# Altium schematic symbol library Flight_controller v1.0.SchLib: 128 symbols
Pins are listed as number, name and electrical type; pins without a type are passive.

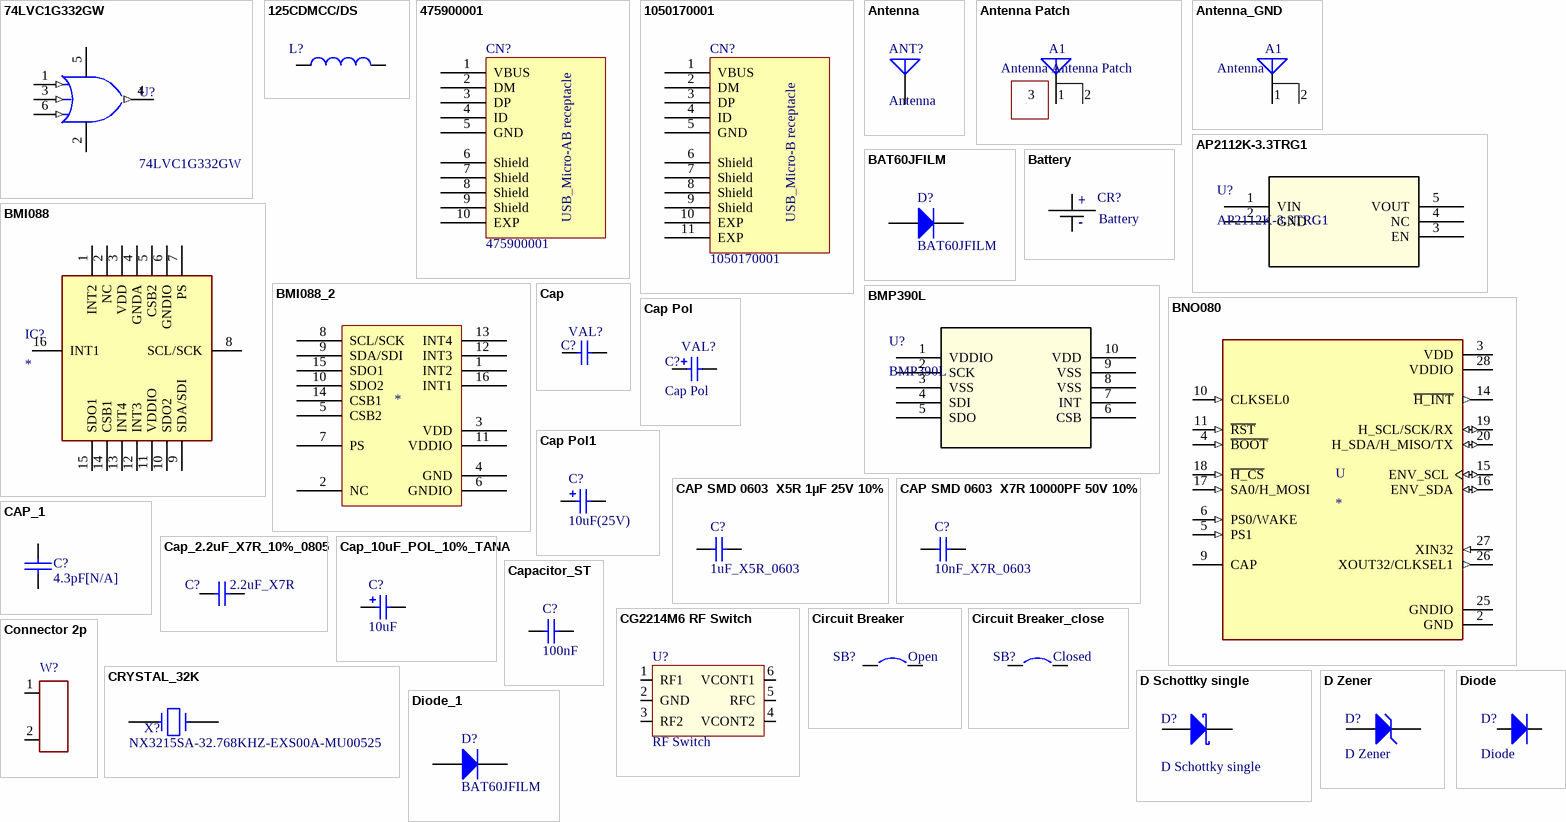
[diagram p0: symbols 74LVC1G332GW to Diode_1]

## 74LVC1G332GW
designator U?
Triple 3-Input OR Gate, 6-Pin; Published: 17-Jul-2002; Publisher: Altium Limited
footprint SOT363-6 (SOT363, 6-Leads, Body 2x1.3mm, Pitch 0.65mm, Lead Span 2.1mm, IPC Medium Density)
pins: 1 A (in), 2 GND (power), 3 B (in), 4 Y (out), 5 VCC (power), 6 C (in)

## 125CDMCC/DS
designator L?, comment 20A 2.2uH ±20% 3.5mΩ 29A SMD Power Inductors ROHS  (value not drawn)
footprint 125CDMCCDS-2R2MC (20A 2.2uH 3.5mOhm)
pins: 1, 2

## 475900001
designator CN?
footprint Model Name (Footprint not found)
footprint MOLEX_47590001 (Footprint not found)
pins: 1 VBUS, 2 DM, 3 DP, 4 ID, 5 GND, 6 Shield, 7 Shield, 8 Shield, 9 Shield, 10 EXP
text: USB_Micro-AB receptacle

## 1050170001
designator CN?
Silkscreen: USB
footprint Model Name (Footprint not found)
footprint MOLEX_1050170001 (Footprint not found)
footprint MICRO_USB_B_105017
footprint Molex_1050170001 (Footprint not found)
pins: 1 VBUS, 2 DM, 3 DP, 4 ID, 5 GND, 6 Shield, 7 Shield, 8 Shield, 9 Shield, 10 EXP, 11 EXP
text: USB_Micro-B receptacle

## Antenna
designator ANT?
Generic Antenna; LatestRevisionDate: 21-Feb-2012  -  Semtech
footprint pin_0.9mm (Generic Pin 0.9mm; 1 Lead)
footprint pin_1.1mm (Generic Pin 1.1mm; 1 Lead)
footprint ANT-LINX-HESM (Helix Antenna - Linx 434MHz)
footprint pin_1mm (Generic Pin 1.1mm; 1 Lead)
footprint ANT_2.4GHz_microstrip (Antenna 2.4 GHz ISM band - Microstrip)
pins: 1 A

## Antenna Patch
designator A1, comment Antenna Antenna Patch
Generic Antenna; Published: 24-Mar-1999; LatestRevisionDate: 05-oct-2007  -  Semtech; LatestRevisionNote: Re-released for DXP Platform.; Publisher: Altium Limited
footprint ANT Blipper (Antenna Blipper 868/915MHz)
pins: 1 A, 2 GND, 3 Patch

## Antenna_GND
designator A1, comment Antenna
Generic Antenna with GND; Published: 24-Mar-1999; LatestRevisionDate: 05-oct-2007  -  Semtech; LatestRevisionNote: Re-released for DXP Platform.; Publisher: Altium Limited
footprint ANT-315-SP (ANT-315-SP - Antenna Factor)
footprint ANT F-inverted (Antenna F-inverted 868/915MHz)
footprint ANT-PRINTED-SM (Custom Printed Antenna for SX12xx applications)
pins: 1 A, 2 GND

## AP2112K-3.3TRG1
designator U?
No Description Available; Mfr_Name: Diodes Inc; Copyright: Copyright (C) 2022 Ultra Librarian. All rights reserved.; Manufacturer_Part_Number: AP2112K-3.3TRG1; RefDes: RefDes; Type: DEV
footprint SOT_RG1_DIO
pins: 1 VIN, 2 GND, 3 EN, 4 NC, 5 VOUT

## BAT60JFILM
designator D?
Manuf_1: STM; Provided: ST; ECCN_US/EU: EAR99/NEC; Revision: July-2002: Re-released for DXP Platform.; Order: BAT60JFILM; Manuf_Part_1: BAT60JFILM; Distrib: ST
footprint DSO-C2/X3.3 (DO-214-AB/SMC; 2 C-Bend Leads; Body 7.9 x 5.9 mm, inc. leads (LxW))
simulation model DIODE (Diode)
signal-integrity model Diode
footprint SOD-323 (Footprint not found)
pins: 1 A, 2 K

## Battery
designator CR?
Baterry standard modif
footprint keystone_3002 (Keystone 3002 Battery Holder - CR2032 or other 20mm diam. battery)
footprint B2B-PH-K-S (B2B-PH-K-S; JST; Battery Connector; Header; 2 Position)
footprint S2B-PH-K-S (S2B-PH-K-S; JST; Battery Connector side entry; Header; 2 Position)
pins: 1 +, 2 -

## BMI088
designator IC?
Integrated Circuit; Manufacturer_Name: Bosch Sensortec; Manufacturer_Part_Number: BMI088; Datasheet Link: https://datasheet.datasheetarchive.com/originals/distributors/Datasheets_SAMA/994c3bf88e91a9e9fead6a819d348e4d.pdf; Height: 1.45mm; Mouser Part Number: 262-BMI088; Mouser Price/Stock: https://www.mouser.co.uk/ProductDetail/Bosch-Sensortec/BMI088?qs=f9yNj16SXrIMFspTV6RB6Q%3D%3D; Arrow Part Number: BMI088; Arrow Price/Stock: https://www.arrow.com/en/products/bmi088/bosch
footprint BMI088
pins: 1 INT2, 2 NC, 3 VDD, 4 GNDA, 5 CSB2, 6 GNDIO, 7 PS, 8 SCL/SCK, 9 SDA/SDI, 10 SDO2, 11 VDDIO, 12 INT3, 13 INT4, 14 CSB1, 15 SDO1, 16 INT1

## BMI088_2
designator *  (value not drawn)
footprint QFN_BMI085_BOS
pins: 1 INT2, 2 NC, 3 VDD, 4 GND, 5 CSB2, 6 GNDIO, 7 PS, 8 SCL/SCK, 9 SDA/SDI, 10 SDO2, 11 VDDIO, 12 INT3, 13 INT4, 14 CSB1, 15 SDO1, 16 INT1

## BMP390L
designator U?
No Description Available; Mfr_Name: Bosch Sensortec; Copyright: Copyright (C) 2022 Ultra Librarian. All rights reserved.; Manufacturer_Part_Number: BMP390L; RefDes: RefDes; Type: DEV
footprint BMP390L_BOS
pins: 1 VDDIO, 2 SCK, 3 VSS, 4 SDI, 5 SDO, 6 CSB, 7 INT, 8 VSS, 9 VSS, 10 VDD

## BNO080
designator U
Accelerometer, Gyroscope, Magnetometer, 9 Axis Sensor IÂ²C, SPI, UART Output; MF: Hillcrest Laboratories,; MP: BNO080; Package: TFLGA-28 Hillcrest Laboratories,; Digi-Key_Purchase_URL: https://www.digikey.com/product-detail/en/hillcrest-laboratories-inc/BNO080/1888-1000-1-ND/7917169?utm_source=snapeda&utm_medium=aggregator&utm_campaign=symbol; Value: *; SnapEDA_Link: https://www.snapeda.com/parts/BNO080/Hillcrest%20Laboratories%2C%20Inc./view-part/2769909/?ref=snap; Digi-Key_Part_Number: 1888-1000-1-ND
footprint BNO080
pins: 2 GND (power), 3 VDD (power), 4 ~{BOOT} (in), 5 PS1 (in), 6 PS0/WAKE (in), 9 CAP, 10 CLKSEL0 (in), 11 ~{RST} (in), 14 ~{H_INT} (out), 15 ENV_SCL (io), 16 ENV_SDA (io), 17 SA0/H_MOSI (in), 18 ~{H_CS} (in), 19 H_SCL/SCK/RX (io), 20 H_SDA/H_MISO/TX (io), 25 GNDIO (power), 26 XOUT32/CLKSEL1 (out), 27 XIN32 (in), 28 VDDIO (power)

## Cap
designator C?  value VAL?  (hidden comment: Cap)
Capacitor SMD; Published: 8-Jun-2000; LatestRevisionDate: 05-oct-2007  -  Semtech; LatestRevisionNote: Re-released for DXP Platform.; Publisher: Altium Limited
simulation model CAP (Semiconductor Capacitor)
signal-integrity model Cap Semi
footprint rlc_402_smd (Chip SMD component 402; Body 1.0 x 0.5 mm (LxW typ))
footprint rlc_603_smd (Chip SMD component 603; Body 1.6 x 0.8mm (LxW typ))
footprint rlc_805_smd (Chip SMD component 805; Body 2.0 x 1.25 mm (LxW typ))
footprint rlc_1206_smd (Chip SMD component 1206; Body 3.2 x 1.6 mm (LxW typ))
footprint rlc_201_smd (Chip SMD component 201; Body 0.6 x 0.3 mm (LxW typ))
pins: 1, 2

## Cap Pol
designator C?  value VAL?
Polarized Capacitor (Surface Mount); Published: 8-Jun-2000; LatestRevisionDate: 05-oct-2007  -  Semtech; LatestRevisionNote: Re-released for DXP Platform.; Publisher: Altium Limited
simulation model CAP (Capacitor)
signal-integrity model Cap Pol
footprint rlc_1210_smd (Chip SMD component 1210; Body 3.2 x 2.5 mm (LxW typ))
footprint rlc_1812_smd (Chip SMD component 1812; Body 4.5 x 3.2 mm (LxW typ))
footprint rlc_2225_smd (Chip SMD component 2225; Body 5.6 x 6.4 mm (LxW typ))
footprint CD3216-1206 (Chip Diode; Body 3.2 x 1.6 mm (LxW typ))
footprint CD2012-0805 (Chip Diode; Body 2.0 x 1.3 mm (LxW typ))
footprint rlc_1206_smd capa pol (Chip SMD component 1206; Body 3.2 x 1.6 mm (LxW typ))
pins: 1, 2
1 alternate drawing of the same symbol

## Cap Pol1
designator C?, comment 10uF(25V)
Polarized Capacitor (Radial); Published: 8-Jun-2000; Revision: July-2002: Re-released for DXP Platform.; Publisher: Altium Limited; Value: 10uF
simulation model CAP (Capacitor)
signal-integrity model C200M
footprint 3528 (Footprint not found)
footprint TAN-B
footprint TAN-A
pins: 1, 2

## CAP SMD 0603  X5R 1µF 25V 10%
designator C?, comment 1uF_X5R_0603
0603  X5R 1µF; Rated voltage: 25V; Tolerance: 10%; Manufacturer: *; Manufacturer P/N: *; Order code Farnell: 1288202RL; Value: 1µF; Power: *; Technology: X5R; Temperature  Factor: *; Temperature Max: +125°C; Temperature Min: -55°C; STS Code: *
footprint 0603C (Footprint not found)
3D model 0603_0_0000_R (PCB3D Model)
simulation model Capacitor
signal-integrity model Capacitor
pins: 1, 2

## CAP SMD 0603  X7R 10000PF 50V 10%
designator C?, comment 10nF_X7R_0603
0603  X7R 10NF; Order code RS: 2040779; Rated voltage: 50V; Tolerance: 10%; Order code Farnell: 7569548RL; Value: 10NF; Power: *; Technology: X7R; Temperature Factor: *; Temperature Min: -55°C; Temperature Max: +125°C; STS Code: *
footprint 0603C (Footprint not found)
3D model 0603_0_0000_R (PCB3D Model)
simulation model Capacitor
signal-integrity model Capacitor
pins: 1, 2

## CAP_1
designator C?, comment 4.3pF[N/A]
Capacitor
footprint 0603 (Footprint not found)
footprint 0603C
pins: 1, 2
2 alternate drawings of the same symbol

## Cap_2.2uF_X7R_10%_0805
designator C?, comment 2.2uF_X7R
Capacitor,2.2uF,16V, X7R,10%,0805,YAGEO; Manuf_Part_1: CC0805KKX7R7BB225; Revision: July-2002: Re-released for DXP Platform.; Value: 2.2uF; Order: CC0805KKX7R7BB225; Manuf_1: YAGEO
simulation model CAP (Capacitor)
signal-integrity model Cap
footprint 0805C
footprint TAN-A
pins: 1, 2

## Cap_10uF_POL_10%_TANA
designator C?, comment 10uF
Polarized Capacitor,10uF,10V,10%,typeA,VISHAY; Manuf_Part_1: 293D106X9010A2TE3; Revision: July-2002: Re-released for DXP Platform.; Value: 10uF; Manuf_1: VISHAY; Order: *; ECCN_US/EU: n/a
simulation model CAP (Capacitor)
signal-integrity model C200M
footprint TAN-A
pins: 1, 2

## Capacitor_ST
designator C?, comment 100nF
Capacitor 0402 / 0603 / 0805; Revision: July-2002: Re-released for DXP Platform.; Value: 100nF
simulation model CAP (Capacitor)
signal-integrity model Cap
footprint 0603C
footprint 0402C
footprint 0805C (Footprint not found)
pins: 1, 2

## CG2214M6 RF Switch
designator U?, comment RF Switch
CG2214M6 RF Switch; LatestRevisionDate: 10-Jan-2017 -  Semtech
footprint MiniMold-6 (MiniMold-6 Package 1.5x1.1mm)
pins: 1 RF1, 2 GND, 3 RF2, 4 VCONT2, 5 RFC, 6 VCONT1

## Circuit Breaker
designator SB?, comment Open
Circuit Breaker; Published: 24-Mar-1999; Revision: July-2002: Re-released for DXP Platform.; Publisher: Altium Limited
footprint SPST-2 (Circuit Breaker; 2 Leads)
footprint JP2_SMD
footprint SB_0603 (Footprint not found)
pins: 1, 2

## Circuit Breaker_close
designator SB?, comment Closed
Circuit Breaker; Published: 24-Mar-1999; Revision: July-2002: Re-released for DXP Platform.; Publisher: Altium Limited
footprint SPST-2 (Circuit Breaker; 2 Leads)
footprint JP2_SMD
footprint SB_0603 (Footprint not found)
pins: 1, 2

## Connector 2p
designator W?  (value not drawn)
2pins Connector
footprint Connector 2p 2_54mm (Generic connector 2.54mm, 2 Leads 1mm;)
pins: 1, 2

## CRYSTAL_32K
designator X?, comment NX3215SA-32.768KHZ-EXS00A-MU00525
Crystal
footprint XTAL1 (Footprint not found)
footprint XTAL_2SM_3R2X1R5 (Footprint not found)
footprint XTAL_NX3215SA-32.768KHZ-EXS00A-MU00525_NDK
pins: 1, 2
2 alternate drawings of the same symbol

## D Schottky single
designator D?
Schottky Diode
footprint SOD123 (SOD123; Chip Diode; Body  2.7 x 1.6 mm (LxW typ))
pins: 1 A, 2 K

## D Zener
designator D?
Zener Diode; Published: 8-Jun-2000; LatestRevisionDate: 05-oct-2007  -  Semtech; LatestRevisionNote: Re-released for DXP Platform.; Publisher: Altium Limited
footprint CD1608-0603 (Chip Diode; Body 1.6 x 0.8 mm (LxW typ))
footprint CD2012-0805 (Chip Diode; Body 2.0 x 1.3 mm (LxW typ))
pins: 1 A, 2 K

## Diode
designator D?
Protection Diode; Published: 8-Jun-2000; LatestRevisionDate: 17-Jul-2002; LatestRevisionNote: Re-released for DXP Platform.; PackageDocument: Sep-1996; PackageReference: SMC; Publisher: Altium Limited; Code_JEDEC: 05-oct-2007  -  Semtech
footprint CD1005-0402 (Chip Diode; Body 1.0 x 0.5 mm (LxW typ))
footprint CD1608-0603 (Chip Diode; Body 1.6 x 0.8 mm (LxW typ))
footprint CD2012-0805 (Chip Diode; Body 2.0 x 1.3 mm (LxW typ))
footprint CD3216-1206 (Chip Diode; Body 3.2 x 1.6 mm (LxW typ))
footprint PowerDI 123 (Chip Diode; PowerDI 123)
footprint DO214-AA (Chip Diode; Body 4.3 x3.6mm (LxW typ))
pins: 1 A, 2 K

## Diode_1
designator D?, comment BAT60JFILM
Default Diode; Code - JEDEC: DO-214-AB; Ordered by: STM; ECCN_US/EU: EAR99/NEC; Published: 8-Jun-2000; Revision: July-2002: Re-released for DXP Platform.; Publisher: Altium Limited
footprint DSO-C2/X3.3 (DO-214-AB/SMC; 2 C-Bend Leads; Body 7.9 x 5.9 mm, inc. leads (LxW))
simulation model DIODE (Diode)
signal-integrity model Diode
footprint SOD-323
pins: 1 A, 2 K

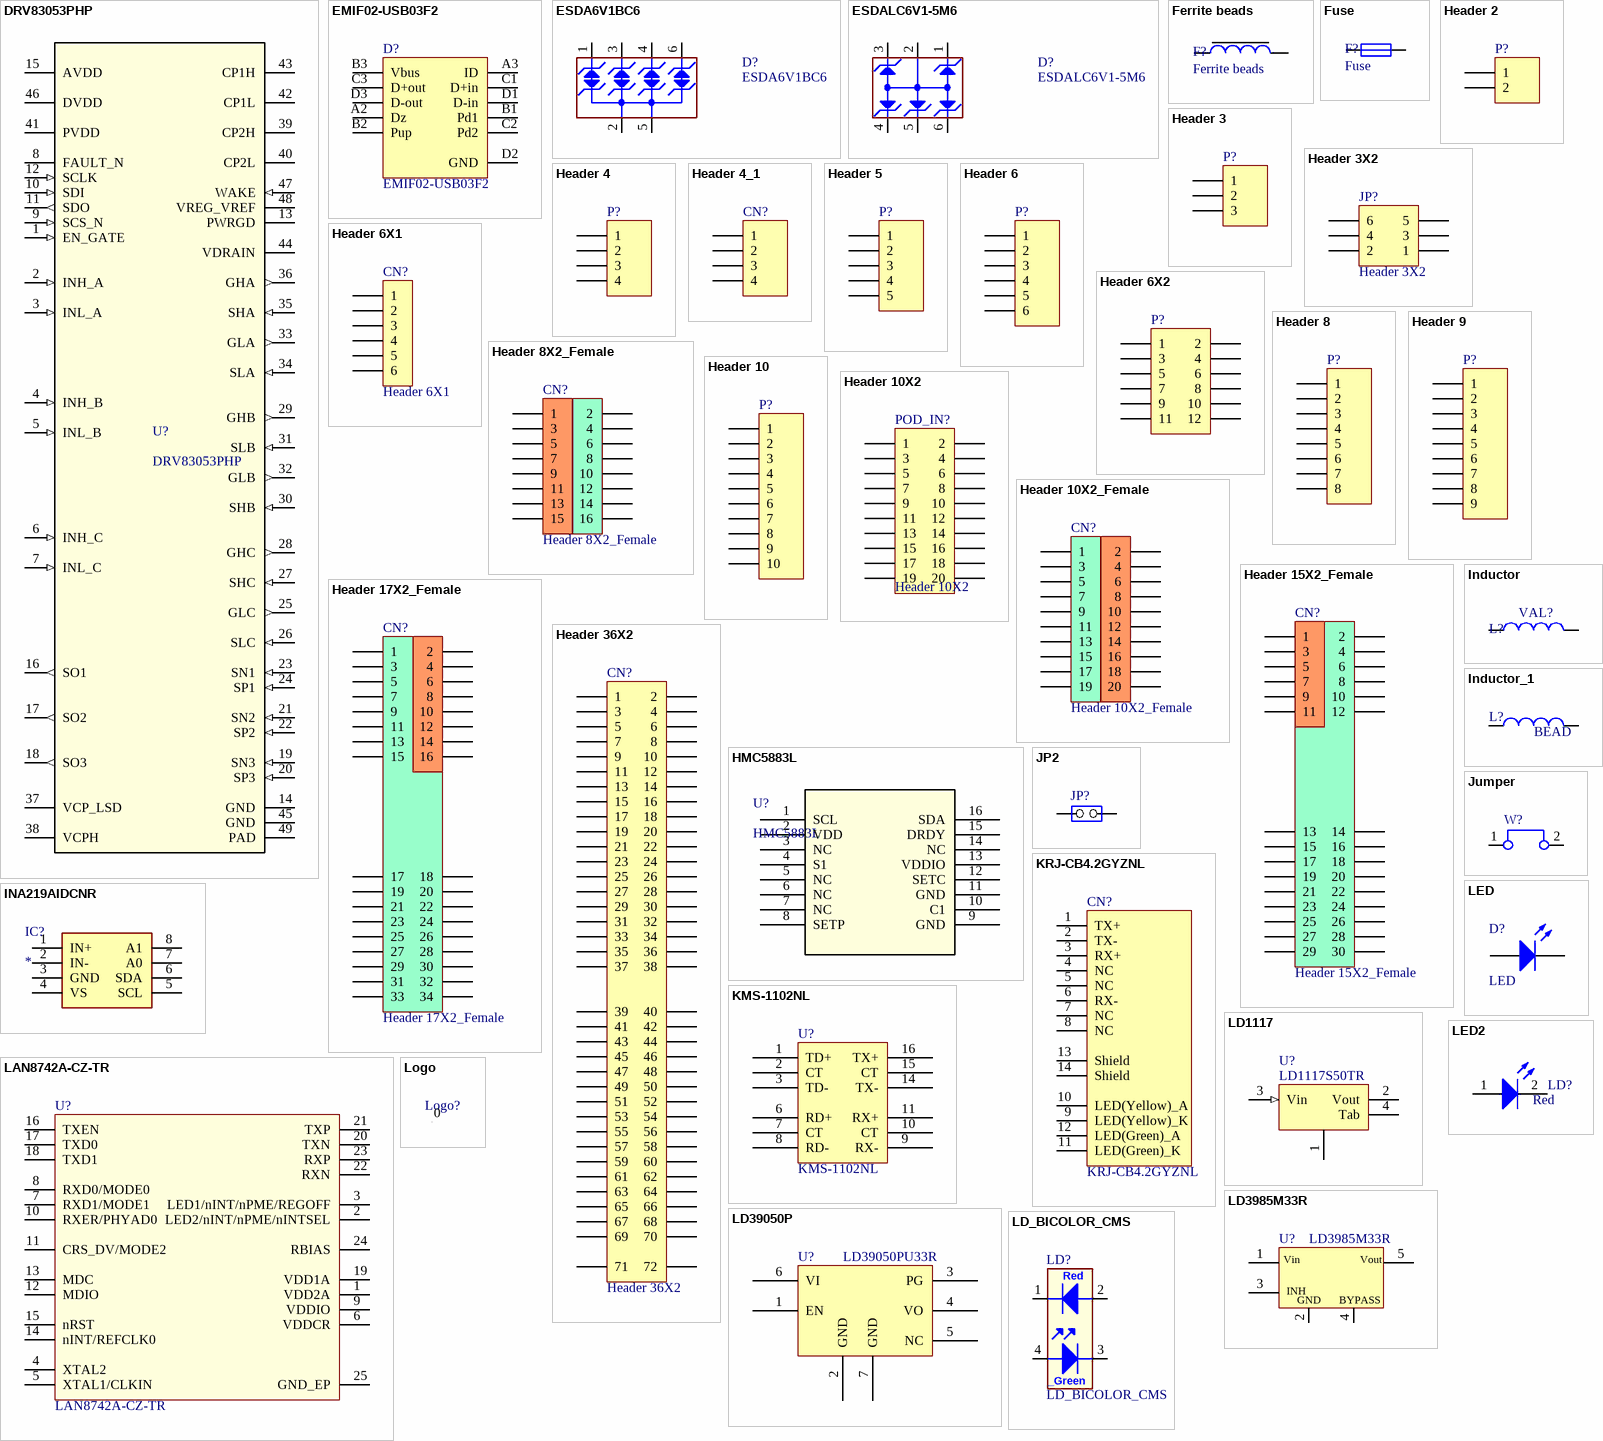
[diagram p1: symbols DRV83053PHP to Logo]

## DRV83053PHP
designator U?
No Description Available; Mfr_Name: Texas Instruments; PartNumber: DRV83053PHPR; CompType: IC; Type: DEV; RefDes: RefDes; Copyright: Copyright (C) 2022 Ultra Librarian. All rights reserved.; Manufacturer_Part_Number: DRV83053PHP; Application_BuildNumber: *; Alternate_PartNumber: DRV83053PHP; PackageReference: PHP0048G; MountType: SMT; RoHS: Y; Manufacturer: Texas Instruments
footprint PHP0048G_N
pins: 1 EN_GATE (in), 2 INH_A (in), 3 INL_A (in), 4 INH_B (in), 5 INL_B (in), 6 INH_C (in), 7 INL_C (in), 8 FAULT_N (oc), 9 SCS_N (in), 10 SDI (in), 11 SDO (out), 12 SCLK (in), 13 PWRGD (oc), 14 GND (power), 15 AVDD (power), 16 SO1 (out), 17 SO2 (out), 18 SO3 (out), 19 SN3 (in), 20 SP3 (in), 21 SN2 (in), 22 SP2 (in), 23 SN1 (in), 24 SP1 (in), 25 GLC (out), 26 SLC (in), 27 SHC (in), 28 GHC (out), 29 GHB (out), 30 SHB (in), 31 SLB (in), 32 GLB (out), 33 GLA (out), 34 SLA (in), 35 SHA (in), 36 GHA (out), 37 VCP_LSD, 38 VCPH, 39 CP2H, 40 CP2L, 41 PVDD (power), 42 CP1L, 43 CP1H, 44 VDRAIN (power), 45 GND (power), 46 DVDD (power), 47 WAKE (in), 48 VREG_VREF (power), 49 PAD (power)

## EMIF02-USB03F2
designator D?
footprint Flip Chip (Footprint not found)
footprint FlipChip(11)
footprint BGA11_0R5_1R57X2R07 (Footprint not found)
pins: A2 Dz, A3 ID, B1 Pd1, B2 Pup, B3 Vbus, C1 D+in, C2 Pd2, C3 D+out, D1 D-in, D2 GND, D3 D-out

## ESDA6V1BC6
designator D?
4-line ESD protection; Manuf_1: STM; Manuf_Part_1: ESDA5V3L; Ref St: 9179034; Provided: ST; ECCN_US/EU: EAR99/NEC; Distrib: ST; Order: ESDA5V3L; Ordered by: STM
footprint SOT23-6L (Footprint not found)
footprint uQFN (Footprint not found)
footprint SOT23-6L_STM
pins: 1 IO1, 2 IO2, 3 GND, 4 IO3, 5 IO4, 6 NC

## ESDALC6V1-5M6
designator D?
5-line ESD protection; Manuf_1: STM; Manuf_Part_1: ESDA5V3L; Ref St: 9179034; Provided: ST; ECCN_US/EU: EAR99/NEC; Distrib: ST; Order: ESDA5V3L; Ordered by: STM
footprint SOT323-5L
footprint uQFN (Footprint not found)
pins: 1 IO1, 2 IO2, 3 GND, 4 IO3, 5 IO4, 6 NC

## Ferrite beads
designator F?
Value: VAL?
footprint rlc_1206_smd (Chip SMD component 1206; Body 3.2 x 1.6 mm (LxW typ))
footprint rlc_805_smd (Chip SMD component 805; Body 2.0 x 1.25 mm (LxW typ))
footprint rlc_603_smd (Chip SMD component 603; Body 1.6 x 0.8mm (LxW typ))
footprint rlc_402_smd (Chip SMD component 402; Body 1.0 x 0.5 mm (LxW typ))
pins: 1, 2

## Fuse
designator F?
Published: 8-Jun-2000; LatestRevisionDate: 05-oct-2007  -  Semtech; LatestRevisionNote: Re-released for DXP Platform.; Publisher: Altium Limited
simulation model FUSE (Spice Subcircuit)
footprint rlc_1206_smd (Chip SMD component 1206; Body 3.2 x 1.6 mm (LxW typ))
footprint rlc_805_smd (Chip SMD component 805; Body 2.0 x 1.25 mm (LxW typ))
footprint rlc_603_smd (Chip SMD component 603; Body 1.6 x 0.8mm (LxW typ))
footprint rlc_402_smd (Chip SMD component 402; Body 1.0 x 0.5 mm (LxW typ))
pins: 1, 2

## Header 2
designator P?
Header, 2-Pin; LatestRevisionDate: 17-Jul-2002; LatestRevisionNote: Re-released for DXP Platform.; Publisher: Altium Limited
footprint HDR1X2 (Connector; Header; 2 Position)
signal-integrity model Connector
pins: 1, 2

## Header 3
designator P?
Header, 3-Pin; LatestRevisionDate: 17-Jul-2002; LatestRevisionNote: Re-released for DXP Platform.; Publisher: Altium Limited
footprint HDR1X3 (Connector; Header; 3 Position)
signal-integrity model Connector
pins: 1, 2, 3

## Header 3X2
designator JP?
Header, 3-Pin, Dual row; Revision: 17-Jul-2002: Re-released for DXP Platform.; Publisher: Altium Limited
footprint HDR2X3 (Connector; Header; 3x2 Position)
signal-integrity model Connector
footprint 2*3P
footprint HDR_3x2_2R54_V_M (Footprint not found)
pins: 1, 2, 3, 4, 5, 6

## Header 4
designator P?
Header, 4-Pin; LatestRevisionDate: 17-Jul-2002; LatestRevisionNote: Re-released for DXP Platform.; Publisher: Altium Limited
footprint HDR1X4 (Connector; Header; 4 Position)
signal-integrity model Connector
pins: 1, 2, 3, 4

## Header 4_1
designator CN?, comment Header 4  (value not drawn)
Header, 4-Pin, Single row; Revision: 17-Jul-2002: Re-released for DXP Platform.; Publisher: Altium Limited
signal-integrity model Connector
footprint 1*4 (Footprint not found)
footprint HDR_1x4_2R54_V_M (Footprint not found)
pins: 1, 2, 3, 4

## Header 5
designator P?
Header, 5-Pin; LatestRevisionDate: 17-Jul-2002; LatestRevisionNote: Re-released for DXP Platform.; Publisher: Altium Limited
footprint HDR1X5 (Connector; Header; 5 Position)
signal-integrity model Connector
pins: 1, 2, 3, 4, 5

## Header 6
designator P?
Header, 6-Pin; LatestRevisionDate: 17-Jul-2002; LatestRevisionNote: Re-released for DXP Platform.; Publisher: Altium Limited
footprint HDR1X6 (Connector; Header; 6 Position)
signal-integrity model Connector
pins: 1, 2, 3, 4, 5, 6

## Header 6X1
designator CN?
Header, 6-Pin, Single row; LatestRevisionDate: 17-Jul-2002; LatestRevisionNote: Re-released for DXP Platform.; Publisher: Altium Limited
footprint HDR2X17 (Connector; Header; 17x2 Position)
signal-integrity model Connector
footprint 1*6P (Footprint not found)
footprint HDR_1x6_2R54_V_M (Footprint not found)
pins: 1, 2, 3, 4, 5, 6

## Header 6X2
designator P?
Header, 6-Pin, Dual row; LatestRevisionDate: 17-Jul-2002; LatestRevisionNote: Re-released for DXP Platform.; Publisher: Altium Limited
footprint HDR2X6 (Connector; Header; 6x2 Position)
signal-integrity model Connector
pins: 1, 2, 3, 4, 5, 6, 7, 8, 9, 10, 11, 12

## Header 8
designator P?
Header, 8-Pin; LatestRevisionDate: 17-Jul-2002; LatestRevisionNote: Re-released for DXP Platform.; Publisher: Altium Limited
footprint HDR1X8 (Connector; Header; 8 Position)
signal-integrity model Connector
pins: 1, 2, 3, 4, 5, 6, 7, 8

## Header 8X2_Female
designator CN?
Header, 8-Pin, Dual row,female; LatestRevisionDate: 17-Jul-2002; LatestRevisionNote: Re-released for DXP Platform.; Publisher: Altium Limited
footprint HDR2X17 (Connector; Header; 17x2 Position)
signal-integrity model Connector
footprint 2*8P_FEMALE (Footprint not found)
footprint HDR_8x2_2R54_V_F (Footprint not found)
pins: 1, 2, 3, 4, 5, 6, 7, 8, 9, 10, 11, 12, 13, 14, 15, 16

## Header 9
designator P?
Header, 9-Pin; LatestRevisionDate: 17-Jul-2002; LatestRevisionNote: Re-released for DXP Platform.; Publisher: Altium Limited
footprint HDR1X9 (Connector; Header; 9 Position)
signal-integrity model Connector
pins: 1, 2, 3, 4, 5, 6, 7, 8, 9

## Header 10
designator P?
Header, 10-Pin; LatestRevisionDate: 17-Jul-2002; LatestRevisionNote: Re-released for DXP Platform.; Publisher: Altium Limited
footprint HDR1X10 (Connector; Header; 10 Position)
signal-integrity model Connector
footprint HDR1X10_TFT_Display (Connector; Header; 10 Position; Adafruit TFT Display)
pins: 1, 2, 3, 4, 5, 6, 7, 8, 9, 10

## Header 10X2
designator POD_IN?
Header, 10-Pin, Dual row; LatestRevisionDate: 17-Jul-2002; LatestRevisionNote: Re-released for DXP Platform.; Publisher: Altium Limited
footprint HDR2X10 (Connector; Header; 10x2 Position)
footprint HDR2X10 modif (Connector; Header; 10x2 Position - modified)
footprint SSW-110-01-F-D (Connector SMD; Header; 10x2 Position; Samtec)
pins: 1, 2, 3, 4, 5, 6, 7, 8, 9, 10, 11, 12, 13, 14, 15, 16, 17, 18, 19, 20

## Header 10X2_Female
designator CN?
Header, 10-Pin, Dual row,female; LatestRevisionDate: 17-Jul-2002; LatestRevisionNote: Re-released for DXP Platform.; Publisher: Altium Limited
footprint HDR2X17 (Connector; Header; 17x2 Position)
signal-integrity model Connector
footprint 2*10P_FEMALE (Footprint not found)
footprint HDR_10x2_2R54_V_F (Footprint not found)
pins: 1, 2, 3, 4, 5, 6, 7, 8, 9, 10, 11, 12, 13, 14, 15, 16, 17, 18, 19, 20

## Header 15X2_Female
designator CN?
Header, 15-Pin, Dual row,female; Revision: 17-Jul-2002: Re-released for DXP Platform.; Publisher: Altium Limited
footprint 2*15P_FEMALE (Footprint not found)
signal-integrity model Connector
footprint HDR_2X26_2R54 (Footprint not found)
footprint HDR_15x2_2R54_V_F (Footprint not found)
pins: 1, 2, 3, 4, 5, 6, 7, 8, 9, 10, 11, 12, 13, 14, 15, 16, 17, 18, 19, 20, 21, 22, 23, 24, 25, 26, 27, 28, 29, 30

## Header 17X2_Female
designator CN?
Header, 17-Pin, Dual row,female; Revision: 17-Jul-2002: Re-released for DXP Platform.; Publisher: Altium Limited
footprint 2*17P_FEMALE (Footprint not found)
signal-integrity model Connector
footprint HDR_2X26_2R54 (Footprint not found)
footprint HDR_17x2_2R54_V_F (Footprint not found)
pins: 1, 2, 3, 4, 5, 6, 7, 8, 9, 10, 11, 12, 13, 14, 15, 16, 17, 18, 19, 20, 21, 22, 23, 24, 25, 26, 27, 28, 29, 30, 31, 32, 33, 34

## Header 36X2
designator CN?
Header, 36-Pin, Dual row; Revision: 17-Jul-2002: Re-released for DXP Platform.; Publisher: Altium Limited
footprint 2*35P (Footprint not found)
signal-integrity model Connector
footprint HDR_2X26_2R54 (Footprint not found)
footprint HDR_2x36_2R54_V_M (Footprint not found)
pins: 1, 2, 3, 4, 5, 6, 7, 8, 9, 10, 11, 12, 13, 14, 15, 16, 17, 18, 19, 20, 21, 22, 23, 24, 25, 26, 27, 28, 29, 30, 31, 32, 33, 34, 35, 36, 37, 38, 39, 40, 41, 42, 43, 44, 45, 46, 47, 48, 49, 50, 51, 52, 53, 54, 55, 56, 57, 58, 59, 60, 61, 62, 63, 64, 65, 66, 67, 68, 69, 70, 71, 72

## HMC5883L
designator U?
No Description Available; Mfr_Name: Honeywell; Copyright: Copyright (C) 2022 Ultra Librarian. All rights reserved.; Manufacturer_Part_Number: HMC5883L; RefDes: RefDes; Type: DEV
footprint LPCC16_HNW
pins: 1 SCL, 2 VDD (power), 3 NC, 4 S1, 5 NC, 6 NC, 7 NC, 8 SETP, 9 GND, 10 C1, 11 GND, 12 SETC, 13 VDDIO (power), 14 NC, 15 DRDY, 16 SDA

## INA219AIDCNR
designator IC?
Integrated Circuit; Manufacturer_Name: Texas Instruments; Manufacturer_Part_Number: INA219AIDCNR; Datasheet Link: https://componentsearchengine.com/Datasheets/2/INA219AIDCNR.pdf; Height: 1.45mm; Mouser Part Number: 595-INA219AIDCNR; Mouser Price/Stock: https://www.mouser.co.uk/ProductDetail/Texas-Instruments/INA219AIDCNR?qs=NNt36bEIu0tiHc879dL2eg%3D%3D; Arrow Part Number: INA219AIDCNR; Arrow Price/Stock: https://www.arrow.com/en/products/ina219aidcnr/texas-instruments
footprint SOP65P280X145-8N
pins: 1 IN+, 2 IN-, 3 GND, 4 VS, 5 SCL, 6 SDA, 7 A0, 8 A1

## Inductor
designator L?  value VAL?  (hidden comment: Inductor)
Inductor SMD; Code_IEC: 1005; Published: 8-Jun-2000; LatestRevisionDate: 05-oct-2007  -  Semtech; LatestRevisionNote: Re-released for DXP Platform.; Publisher: Altium Limited; Code_JEITA: 0402
simulation model INDUCTOR (Inductor)
signal-integrity model Inductor
footprint rlc_402_smd (Chip SMD component 402; Body 1.0 x 0.5 mm (LxW typ))
footprint rlc_201_smd (Chip SMD component 201; Body 0.6 x 0.3 mm (LxW typ))
footprint rlc_603_smd (Chip SMD component 603; Body 1.6 x 0.8mm (LxW typ))
footprint rlc_805_smd (Chip SMD component 805; Body 2.0 x 1.25 mm (LxW typ))
footprint rlc_1206_smd (Chip SMD component 1206; Body 3.2 x 1.6 mm (LxW typ))
footprint rlc_1210_smd (Chip SMD component 1210; Body 3.2 x 2.5 mm (LxW typ))
footprint rlc_1812_smd (Chip SMD component 1812; Body 4.5 x 3.2 mm (LxW typ))
footprint L2813
footprint L4818
pins: 1, 2

## Inductor_1
designator L?, comment BEAD
Inductor; Value: 100uH; Published: 8-Jun-2000; Revision: July-2002: Re-released for DXP Platform.; Publisher: Altium Limited
footprint 0603 (Footprint not found)
footprint 0603C
footprint 0603L
footprint IND_FCM1608_TTC
pins: 1, 2

## JP2
designator JP?
footprint SIP2/2.54
footprint HDR_1x2_2R54_V_M_S (Footprint not found)
pins: 1 COMMON, 2 NO

## Jumper
designator W?  (value not drawn)
Jumper Wire; LatestRevisionDate: 05-oct-2007  -  Semtech
footprint bridge_254mm (Generic Bridge 2.54mm, 2 Leads 1mm;)
footprint bridge_508mm (Generic Bridge 5.08mm, 2 Leads 1mm;)
pins: 1, 2

## KMS-1102NL
designator U?
footprint Transformer (Footprint not found)
pins: 1 TD+, 2 CT, 3 TD-, 6 RD+, 7 CT, 8 RD-, 9 RX-, 10 CT, 11 RX+, 14 TX-, 15 CT, 16 TX+

## KRJ-CB4.2GYZNL
designator CN?
100 Base-TX (Fast Ethernet) SMD RJ45 single port (1x1) with LEDS Integrated Magnetics Connector; Manuf_1: HanRun; Manuf_Part_1: HR961160C; Manuf_2: Pulse Electronics Corporation; Manuf_Part_2: J3011G21DNLT; Manuf_3: K.O.D International Holding; Manuf_Part_3: RMT-119A-12F6-GY-04; Distrib: Sub Co; Order: *
footprint RJ45_KRJ-CB4.2GYZNL (Footprint not found)
pins: 1 TX+, 2 TX-, 3 RX+, 4 NC, 5 NC, 6 RX-, 7 NC, 8 NC, 9 LED(Yellow)_K, 10 LED(Yellow)_A, 11 LED(Green)_K, 12 LED(Green)_A, 13 Shield, 14 Shield

## LAN8742A-CZ-TR
designator U?
LAN8742A-CZ-TR - Small Footprint RMII 10/100 Ethernet, Transceiver with HP Auto-MDIX and flexPWR Technology SQFN-24; Manuf_1: MICROCHIP; Order: LAN8742A-CZ-TR; Manuf_Part_1: LAN8742A-CZ-TR; Distrib: MICROCHIP
footprint QFN24_0R5_4X4 (Footprint not found)
pins: 1 VDD2A, 2 LED2/nINT/nPME/nINTSEL, 3 LED1/nINT/nPME/REGOFF, 4 XTAL2, 5 XTAL1/CLKIN, 6 VDDCR, 7 RXD1/MODE1, 8 RXD0/MODE0, 9 VDDIO, 10 RXER/PHYAD0, 11 CRS_DV/MODE2, 12 MDIO, 13 MDC, 14 nINT/REFCLK0, 15 nRST, 16 TXEN, 17 TXD0, 18 TXD1, 19 VDD1A, 20 TXN, 21 TXP, 22 RXN, 23 RXP, 24 RBIAS, 25 GND_EP

## LD1117
designator U?, comment LD1117S50TR
footprint SOT-223
pins: 1, 2 Vout (power), 3 Vin (in), 4 Tab (power)

## LD3985M33R
designator U?
Ultra low drop-low noise BiCMOS voltage, regulators low ESR capacitors compatible; Manuf_1: STM; Provided: ST; Ref St: 9176161; ECCN_US/EU: EAR99/NEC; Manuf_Part_1: LD3985M33R; Distrib: ST; Order: LD3985M33R
footprint SOT-23-5L
pins: 1 Vin, 2 GND, 3 CE, 4 BYPASS, 5 Vout
text: INH

## LD39050P
designator U?, comment LD39050PU33R
footprint DFN6
footprint DFN6(3X3)
footprint DFN6_0R95_3x3_TP (Footprint not found)
footprint DFN6_3X3_STM
pins: 1 EN, 2 GND, 3 PG, 4 VO, 5 NC, 6 VI, 7 GND

## LD_BICOLOR_CMS
designator LD?
Bicolor Led; Manuf_Part_1: HSMF-A201-A00J1; Manuf_1: Avago Technologies; Ref St: xxxxxx; cap_dec: ----; Distrib: RADIOSPARES; Footprint: HSMF-A201
footprint HSMF-A201
pins: 1, 2, 3, 4
text: Red; _Green

## LED
designator D?
LatestRevisionDate: 05-oct-2007  -  Semtech
footprint CD1005-0402 (Chip Diode; Body 1.0 x 0.5 mm (LxW typ))
footprint CD1608-0603 (Chip Diode; Body 1.6 x 0.8 mm (LxW typ))
footprint CD2012-0805 (Chip Diode; Body 2.0 x 1.3 mm (LxW typ))
footprint Reverse LED 3216 - 1206-hole round (Reverse Package Chip LED; Body 3.2 x 1.6 mm (LxW typ))
footprint Reverse LED 3216 - 1206 - hole slot (Reverse Package Chip LED; Body 3.2 x 1.6 mm (LxW typ))
pins: 1 A, 2 K

## LED2
designator LD?, comment Red
Typical RED, GREEN, YELLOW, AMBER GaAs LED; Published: 8-Jun-2000; Revision: July-2002: Re-released for DXP Platform.; Publisher: Altium Limited
footprint D0603 (Footprint not found)
footprint 0603D-R (Footprint not found)
pins: 1 A, 2 K

## Logo
designator Logo?, comment Logo symbol  (value not drawn)
Schematic symbol for Logo
footprint logo_semtech_horiz_size1 (Logo semtech horizontal - size1 - S)
footprint logo_semtech_horiz_size2 (Logo semtech horizontal - size2 - M)
footprint logo_semtech_horiz_size3 (Logo semtech horizontal - size3 - L)
footprint logo_semtech_horiz_size4 (Logo semtech horizontal - size4 - XL)
footprint Logo DC Supply (Logo for DC Supply)
footprint Logo LoRa Size1
footprint Logo LoRa Size2
footprint Logo LoRa Size3
footprint Logo LoRa Size4 (Logo LoRa Size4 - Top Overlay)
footprint Logo LR24 - Size1 (Logo LR24 - Size1 - Top Overlay)
footprint Logo LR24 - Size2 (Logo LR24 - Size2 - Top Overlay)
pins: 0 "Logo"

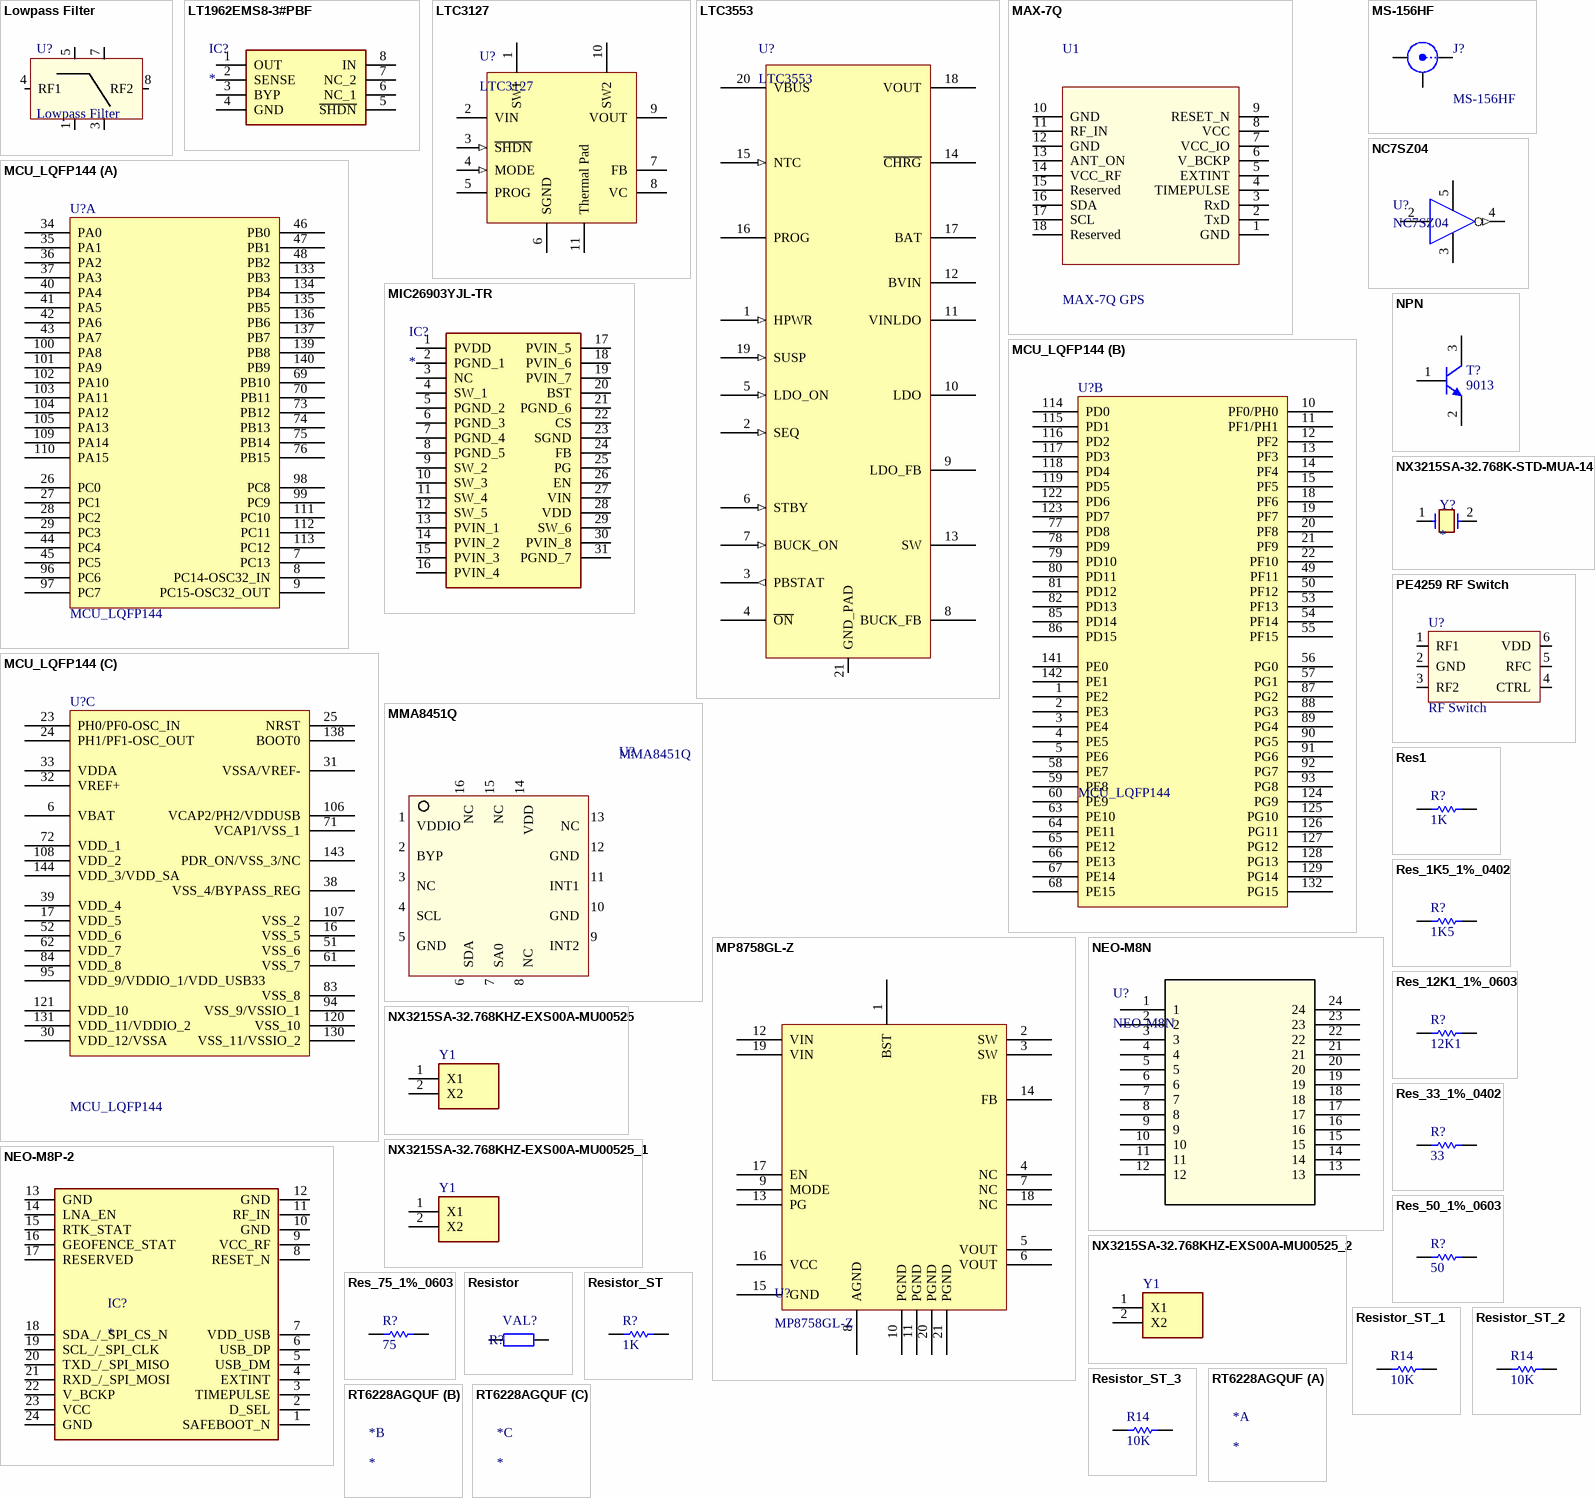
[diagram p2: symbols Lowpass Filter to RT6228AGQUF]

## Lowpass Filter
designator U?
RF Filter - Lowpass; LatestRevisionDate: 05-oct-2007  -  Semtech
footprint LP Filter Johanson (Low Pass Filter ; Body 2.00 x 1.25 mm (LxW max))
pins: 1 GND, 3 GND, 4 RF1, 5 GND, 7 GND, 8 RF2

## LT1962EMS8-3#PBF
designator IC?
Integrated Circuit; Manufacturer_Name: Analog Devices; Manufacturer_Part_Number: LT1962EMS8-3#PBF; Datasheet Link: https://www.arrow.com/en/products/lt1962ems8-3pbf/analog-devices; Height: 1.1mm; Mouser Part Number: 584-LT1962EMS8-3#PBF; Mouser Price/Stock: https://www.mouser.co.uk/ProductDetail/Analog-Devices/LT1962EMS8-3PBF?qs=ytflclh7QUXxxZaUnuHhJA%3D%3D; Arrow Part Number: LT1962EMS8-3#PBF; Arrow Price/Stock: https://www.arrow.com/en/products/lt1962ems8-3pbf/analog-devices
footprint SOP65P490X110-8N
pins: 1 OUT, 2 SENSE, 3 BYP, 4 GND, 5 ~{SHDN}, 6 NC_1, 7 NC_2, 8 IN

## LTC3127
designator U?
LTC3127EDD#PBF - 1A Buck-Boost DC/DC  Converter with Programmable  Input Current Limit; Published: 30-May-2008; LatestRevisionDate: 4-Feb-2010; LatestRevisionNote: Thermal pad adjusted to match vendors recommendation, VIN type changed to power.; DatasheetVersion: Aug-2007; PackageVersion: Jul-2005; PackageReference: DD10; Publisher: Altium Limited; PackageDescription: 10-Pin Plastic DFN, 3 x 3 x 0.8 mm Body, 0.5 mm Pitch, No Pullback, Exposed Pad (DD10); Code_JEDEC: MO-229-WEED-2; ComponentLink1Description: Manufacturer Link; ComponentLink1URL: http://www.linear.com/; ComponentLink2Description: Datasheet; ComponentLink2URL: http://www.linear.com/pc/downloadDocument.do?navId=H0,C1,C1003,C1042,C1035,P7546,D5130; P/N:: LTC3127EDD#PBF
footprint DD10_N (SON, 10-Leads, Body 3x3 mm, Pitch 0.5mm, IPC Medium Density)
footprint DD10_L (SON, 10-Leads, Body 3x3 mm, Pitch 0.5mm, IPC High Density)
footprint DD10_M (SON, 10-Leads, Body 3x3 mm, Pitch 0.5mm, IPC Low Density)
pins: 1 SW1 (oc), 2 VIN (power), 3 ~{SHDN} (in), 4 MODE (in), 5 PROG, 6 SGND, 7 FB, 8 VC, 9 VOUT, 10 SW2 (oc), 11 Thermal Pad (power)

## LTC3553
designator U?
Micropower USB Power Manager With Li-Ion Charger,  LDO and Buck Regulator; ComponentLink1URL: http://www.linear.com/
footprint vqfn20_3x3mm (20 Leads, Body 3.0x3.0mm, Pitch 0.40mm, VQFN20)
pins: 1 HPWR (in) "High Power Logic Input", 2 SEQ (in) "Regulator Power-Up Sequence Select", 3 PBSTAT (out) "Pushbutton Status", 4 ~{ON} "ON", 5 LDO_ON (in) "Logic Input Enables LDO", 6 STBY (in) "Standby Mode", 7 BUCK_ON (in) "Logic Input Enables the Buck Regulator", 8 BUCK_FB (power) "Feedback Input for the Buck Regulator", 9 LDO_FB (power) "Feedback Input for the Low Dropout Regulator", 10 LDO (power) "Low Dropout (LDO) Linear Regulator Output", 11 VINLDO (power) "Power Input Pin for the LDO Regulator", 12 BVIN (power) "Power Input for the Buck Regulator", 13 SW (power) "Power Transmission (Switch) Pin", 14 ~{CHRG} "Open-Drain Charge Status Output", 15 NTC (in) "Input to the Negative Temperature Coefficient Thermistor Temperature Monitoring Circuit", 16 PROG "Charge Current Program", 17 BAT (power) "Single-Cell Li-Ion Battery Pin", 18 VOUT (power) "Output Voltage of the PowerPath Controller", 19 SUSP (in) "Suspend Mode", 20 VBUS (power) "Positive Supply Voltage Input", 21 GND_PAD (power) "Ground Pad"

## MAX-7Q
designator U1, comment MAX-7Q GPS
MAX-7Q; U-Blox; 7 GPS/GNSS modules
footprint MAX-7 (MAX-7; GPS U-Blox footprint)
pins: 1 GND, 2 TxD, 3 RxD, 4 TIMEPULSE, 5 EXTINT, 6 V_BCKP, 7 VCC_IO, 8 VCC, 9 RESET_N, 10 GND, 11 RF_IN, 12 GND, 13 ANT_ON, 14 VCC_RF, 15 Reserved, 16 SDA, 17 SCL, 18 Reserved

## MCU_LQFP144
designator U?
footprint TQFP144_M (Footprint not found)
footprint IC149-144-045-B5
footprint LQFP144 (Footprint not found)
footprint LQFP144_0R5_SKT (Footprint not found)
footprint LQFP144-20x20mm
part A pins: 7 PC13, 8 PC14-OSC32_IN, 9 PC15-OSC32_OUT, 26 PC0, 27 PC1, 28 PC2, 29 PC3, 34 PA0, 35 PA1, 36 PA2, 37 PA3, 40 PA4, 41 PA5, 42 PA6, 43 PA7, 44 PC4, 45 PC5, 46 PB0, 47 PB1, 48 PB2, 69 PB10, 70 PB11, 73 PB12, 74 PB13, 75 PB14, 76 PB15, 96 PC6, 97 PC7, 98 PC8, 99 PC9, 100 PA8, 101 PA9, 102 PA10, 103 PA11, 104 PA12, 105 PA13, 109 PA14, 110 PA15, 111 PC10, 112 PC11, 113 PC12, 133 PB3, 134 PB4, 135 PB5, 136 PB6, 137 PB7, 139 PB8, 140 PB9
part B pins: 1 PE2, 2 PE3, 3 PE4, 4 PE5, 5 PE6, 10 PF0/PH0, 11 PF1/PH1, 12 PF2, 13 PF3, 14 PF4, 15 PF5, 18 PF6, 19 PF7, 20 PF8, 21 PF9, 22 PF10, 49 PF11, 50 PF12, 53 PF13, 54 PF14, 55 PF15, 56 PG0, 57 PG1, 58 PE7, 59 PE8, 60 PE9, 63 PE10, 64 PE11, 65 PE12, 66 PE13, 67 PE14, 68 PE15, 77 PD8, 78 PD9, 79 PD10, 80 PD11, 81 PD12, 82 PD13, 85 PD14, 86 PD15, 87 PG2, 88 PG3, 89 PG4, 90 PG5, 91 PG6, 92 PG7, 93 PG8, 114 PD0, 115 PD1, 116 PD2, 117 PD3, 118 PD4, 119 PD5, 122 PD6, 123 PD7, 124 PG9, 125 PG10, 126 PG11, 127 PG12, 128 PG13, 129 PG14, 132 PG15, 141 PE0, 142 PE1
part C pins: 6 VBAT, 16 VSS_5, 17 VDD_5, 23 PH0/PF0-OSC_IN, 24 PH1/PF1-OSC_OUT, 25 NRST, 30 VDD_12/VSSA, 31 VSSA/VREF-, 32 VREF+, 33 VDDA, 38 VSS_4/BYPASS_REG, 39 VDD_4, 51 VSS_6, 52 VDD_6, 61 VSS_7, 62 VDD_7, 71 VCAP1/VSS_1, 72 VDD_1, 83 VSS_8, 84 VDD_8, 94 VSS_9/VSSIO_1, 95 VDD_9/VDDIO_1/VDD_USB33, 106 VCAP2/PH2/VDDUSB, 107 VSS_2, 108 VDD_2, 120 VSS_10, 121 VDD_10, 130 VSS_11/VSSIO_2, 131 VDD_11/VDDIO_2, 138 BOOT0, 143 PDR_ON/VSS_3/NC, 144 VDD_3/VDD_SA

## MIC26903YJL-TR
designator IC?
Integrated Circuit; Manufacturer_Name: Microchip; Manufacturer_Part_Number: MIC26903YJL-TR; Datasheet Link: http://www.mouser.com/datasheet/2/268/MIC26903-778571.pdf; Height: 2mm; Mouser Part Number: 998-MIC26903YJLTR; Mouser Price/Stock: https://www.mouser.co.uk/ProductDetail/Microchip-Technology-Micrel/MIC26903YJL-TR?qs=Y3Q3JoKAO1SmLxVK4D3Efg%3D%3D; Arrow Part Number: MIC26903YJL-TR; Arrow Price/Stock: https://www.arrow.com/en/products/mic26903yjl-tr/microchip-technology?region=nac
footprint MIC24054YJLTR
pins: 1 PVDD, 2 PGND_1, 3 NC, 4 SW_1, 5 PGND_2, 6 PGND_3, 7 PGND_4, 8 PGND_5, 9 SW_2, 10 SW_3, 11 SW_4, 12 SW_5, 13 PVIN_1, 14 PVIN_2, 15 PVIN_3, 16 PVIN_4, 17 PVIN_5, 18 PVIN_6, 19 PVIN_7, 20 BST, 21 PGND_6, 22 CS, 23 SGND, 24 FB, 25 PG, 26 EN, 27 VIN, 28 VDD, 29 SW_6, 30 PVIN_8, 31 PGND_7

## MMA8451Q
designator U?
Xtrinsic MMA8451Q 3-Axis, 14-bit/8-bit Digital Accelerometer
footprint vqfn16_3x3mm (16 Leads, Body 3.0x3.0mm, Pitch 0.50mm, VQFN16)
pins: 1 VDDIO, 2 BYP, 3 NC, 4 SCL, 5 GND, 6 SDA, 7 SA0, 8 NC, 9 INT2, 10 GND, 11 INT1, 12 GND, 13 NC, 14 VDD, 15 NC, 16 NC

## MP8758GL-Z
designator U?
No Description Available; Mfr_Name: Monolithic Power Systems; Copyright: Copyright (C) 2023 Ultra Librarian. All rights reserved.; Manufacturer_Part_Number: MP8758GL-Z; RefDes: RefDes; Type: DEV
footprint MP8758HGL-Z
pins: 1 BST, 2 SW, 3 SW, 4 NC, 5 VOUT, 6 VOUT, 7 NC, 8 AGND, 9 MODE, 10 PGND, 11 PGND, 12 VIN, 13 PG, 14 FB, 15 GND, 16 VCC, 17 EN, 18 NC, 19 VIN, 20 PGND, 21 PGND

## MS-156HF
designator J?
MS-156HF Hirose RF Connector; LatestRevisionDate: 15-June-2016  -  Semtech; LatestRevisionNote: Re-released for DXP Platform.; Publisher: Altium Limited
footprint MS-156HF Hirose (Hirose MS-156HF receptacle - MS-156HF)
pins: 1 Signal "RF signal1", 2 Signal "RF signal2", 3 GND (power) "Ground signal", 4 GND (power) "Ground signal"

## NC7SZ04
designator U?
NC7SZ04 - TinyLogic HS Single Inverter - Fairchild Semi
footprint SOT23-5 (SOT23, 5-Leads, Body 2.9x1.6mm, Pitch 0.95mm, Lead Span 2.8mm, IPC Medium Density)
footprint SC70-5 (SC70 5-Leads, Body 2.0x1.25mm, Pitch 0.65mm)
pins: 2 A, 3 GND (power), 4 Y (out), 5 VCC (power)

## NEO-M8N
designator U?
No Description Available; Mfr_Name: Ublox; Copyright: Copyright (C) 2022 Ultra Librarian. All rights reserved.; Manufacturer_Part_Number: NEO-M8N; RefDes: RefDes; Type: DEV
footprint SON_O-M8N_UBL
pins: 1, 2, 3, 4, 5, 6, 7 (power), 8, 9 (power), 10, 11, 12, 13, 14, 15, 16, 17, 18, 19, 20, 21, 22, 23 (power), 24

## NEO-M8P-2
designator IC?
Integrated Circuit; Manufacturer_Name: U-Blox; Manufacturer_Part_Number: NEO-M8P-2; Datasheet Link: https://datasheet.datasheetarchive.com/originals/distributors/DKDS-37/730172.pdf; Mouser Part Number: 377-NEO-M8P-2; Mouser Price/Stock: https://www.mouser.co.uk/ProductDetail/u-blox/NEO-M8P-2?qs=zW32dvEIR3um1owIgR0I3w%3D%3D
footprint NEO-M8U
pins: 1 SAFEBOOT_N, 2 D_SEL, 3 TIMEPULSE, 4 EXTINT, 5 USB_DM, 6 USB_DP, 7 VDD_USB, 8 RESET_N, 9 VCC_RF, 10 GND, 11 RF_IN, 12 GND, 13 GND, 14 LNA_EN, 15 RTK_STAT, 16 GEOFENCE_STAT, 17 RESERVED, 18 SDA_/_SPI_CS_N, 19 SCL_/_SPI_CLK, 20 TXD_/_SPI_MISO, 21 RXD_/_SPI_MOSI, 22 V_BCKP, 23 VCC, 24 GND

## NPN
designator T?, comment 9013
NPN Bipolar Transistor; Code - JEDEC: TO-226-AA; Published: 8-Jun-2000; Revision: July-2002: Re-released for DXP Platform.; Publisher: Altium Limited
footprint BCY-W3 (TO, Flat Index; 3 In-Line, Axial Leads; Body Dia. 4.8mm)
simulation model NPN
signal-integrity model NPN
footprint SOT-23
footprint SOT23-213 (Footprint not found)
pins: 1 B, 2 E, 3 C

## NX3215SA-32.768K-STD-MUA-14
designator Y?
32.768kHz Â±20ppm Crystal 6pF 70 kOhms 2-SMD, No Lead  MANUFACTURER: NIHON DEMPA KOGYO; MP: NX3215SA-32.768K-STD-MUA-14; Availability: Unavailable; Package: None; Value: *; Price: None
footprint XTAL_NX3215SA-32.768K-STD-MUA-14
pins: 1, 2

## NX3215SA-32.768KHZ-EXS00A-MU00525
designator Y1  (value not drawn)
Crystal or Oscillator; Manufacturer_Name: NDK; Datasheet Link: https://www.ndk.com/en/products/search/crystal/1188854_1494.html; Height: 0.9mm; Manufacturer_Part_Number: NX3215SA-32.768KHZ-EXS00A-MU00525; LCSC Part: *
footprint NX3215SA32768KHZEXS00AMU00525
pins: 1 X1, 2 X2

## NX3215SA-32.768KHZ-EXS00A-MU00525_1
designator Y1, comment NX3215SA-32.768KHZ-EXS00A-MU00525  (value not drawn)
Crystal or Oscillator; Manufacturer_Name: NDK; Datasheet Link: https://www.ndk.com/en/products/search/crystal/1188854_1494.html; Height: 0.9mm; Manufacturer_Part_Number: NX3215SA-32.768KHZ-EXS00A-MU00525
footprint NX3215SA32768KHZEXS00AMU00525
pins: 1 X1, 2 X2

## NX3215SA-32.768KHZ-EXS00A-MU00525_2
designator Y1, comment NX3215SA-32.768KHZ-EXS00A-MU00525  (value not drawn)
Crystal or Oscillator; Manufacturer_Name: NDK; Datasheet Link: https://www.ndk.com/en/products/search/crystal/1188854_1494.html; Height: 0.9mm; Manufacturer_Part_Number: NX3215SA-32.768KHZ-EXS00A-MU00525
footprint NX3215SA32768KHZEXS00AMU00525
pins: 1 X1, 2 X2

## PE4259 RF Switch
designator U?, comment RF Switch
PE4259 Peregrine RF Switch; LatestRevisionDate: 03-Sep-2012 -  Semtech
footprint SC70-6 (SC70 6-Leads, Body 2.0x1.25mm, Pitch 0.65mm)
pins: 1 RF1, 2 GND, 3 RF2, 4 CTRL, 5 RFC, 6 VDD

## Res1
designator R?, comment 1K
Resistor; Ordered by: Subcon; Published: 8-Jun-2000; Revision: July-2002: Re-released for DXP Platform.; Publisher: Altium Limited; Value: 1K
footprint AXIAL-0.3
footprint 0603
footprint 0603R
footprint 0402R
pins: 1, 2
2 alternate drawings of the same symbol

## Res_1K5_1%_0402
designator R?, comment 1K5
Resistor,1K5,0402,1%,YAGEO; Manuf_Part_1: RC0402FR-071K5L; Value: 1K5; Manuf_1: YAGEO; Order: RC0402FR-071K5L; ECCN_US/EU: n/a; Distrib: FARNELL
footprint 0402R
footprint 0603R
footprint 0805R (Footprint not found)
footprint 0603R-GS
footprint 1206R (Footprint not found)
pins: 1, 2

## Res_12K1_1%_0603
designator R?, comment 12K1
Resistor,12K1,0603,1%,VISHAY; Manuf_Part_1: MCT 0603-50 1% P5 12K1; Order: 2325243; Value: 12K1; ECCN_US/EU: n/a; Manuf_1: VISHAY; Distrib: FARNELL
footprint 0603R
footprint 0603R-GS
pins: 1, 2

## Res_33_1%_0402
designator R?, comment 33
Resistor,33,0402,1%,YAGEO; Manuf_Part_1: RC0402FR-0733RL; Value: 33; Manuf_1: YAGEO; Order: *; ECCN_US/EU: n/a; Distrib: FARNELL
footprint 0402R
footprint 0603R
footprint 0805R (Footprint not found)
footprint 0603R-GS
footprint 1206R (Footprint not found)
pins: 1, 2

## Res_50_1%_0603
designator R?, comment 50
Resistor,50,0603,1%,YAGEO; Manuf_Part_1: RC0402FR-0750RL; Value: 50; Manuf_1: YAGEO; Order: *; ECCN_US/EU: n/a; Distrib: FARNELL
footprint 0402R
footprint 0603R
footprint 0805R (Footprint not found)
footprint 0603R-GS
footprint 1206R (Footprint not found)
pins: 1, 2

## Res_75_1%_0603
designator R?, comment 75
Resistor,75,0603,1%,YAGEO; Manuf_Part_1: RC0402FR-0750RL; Value: 50; Manuf_1: YAGEO; Order: *; ECCN_US/EU: n/a; Distrib: FARNELL
footprint 0402R
footprint 0603R
footprint 0805R (Footprint not found)
footprint 0603R-GS
footprint 1206R (Footprint not found)
pins: 1, 2

## Resistor
designator R?  value VAL?  (hidden comment: Resistor)
Resistor SMD - IEC symbol version; LatestRevisionDate: 27-Jul-20  -  Semtech
footprint rlc_201_smd (Chip SMD component 201; Body 0.6 x 0.3 mm (LxW typ))
footprint rlc_402_smd (Chip SMD component 402; Body 1.0 x 0.5 mm (LxW typ))
footprint rlc_603_smd (Chip SMD component 603; Body 1.6 x 0.8mm (LxW typ))
footprint rlc_805_smd (Chip SMD component 805; Body 2.0 x 1.25 mm (LxW typ))
footprint rlc_1206_smd (Chip SMD component 1206; Body 3.2 x 1.6 mm (LxW typ))
pins: 1, 2

## Resistor_ST
designator R?, comment 1K
Resistor 0402 / 0603 / 0805; Value: 10K
footprint 0402R
footprint 0603R
footprint 0805R (Footprint not found)
footprint 0603R-GS
pins: 1, 2

## Resistor_ST_1
designator R14, comment 10K
Resistor 0402 / 0603 / 0805; Value: 10K
footprint 0402R
footprint 0603R
footprint 0805R (Footprint not found)
footprint 0603R-GS
pins: 1, 2

## Resistor_ST_2
designator R14, comment 10K
Resistor 0402 / 0603 / 0805; Value: 10K
footprint 0402R
footprint 0603R
footprint 0805R (Footprint not found)
footprint 0603R-GS
pins: 1, 2

## Resistor_ST_3
designator R14, comment 10K
Resistor 0402 / 0603 / 0805; Value: 10K
footprint 0402R
footprint 0603R
footprint 0805R (Footprint not found)
footprint 0603R-GS
pins: 1, 2

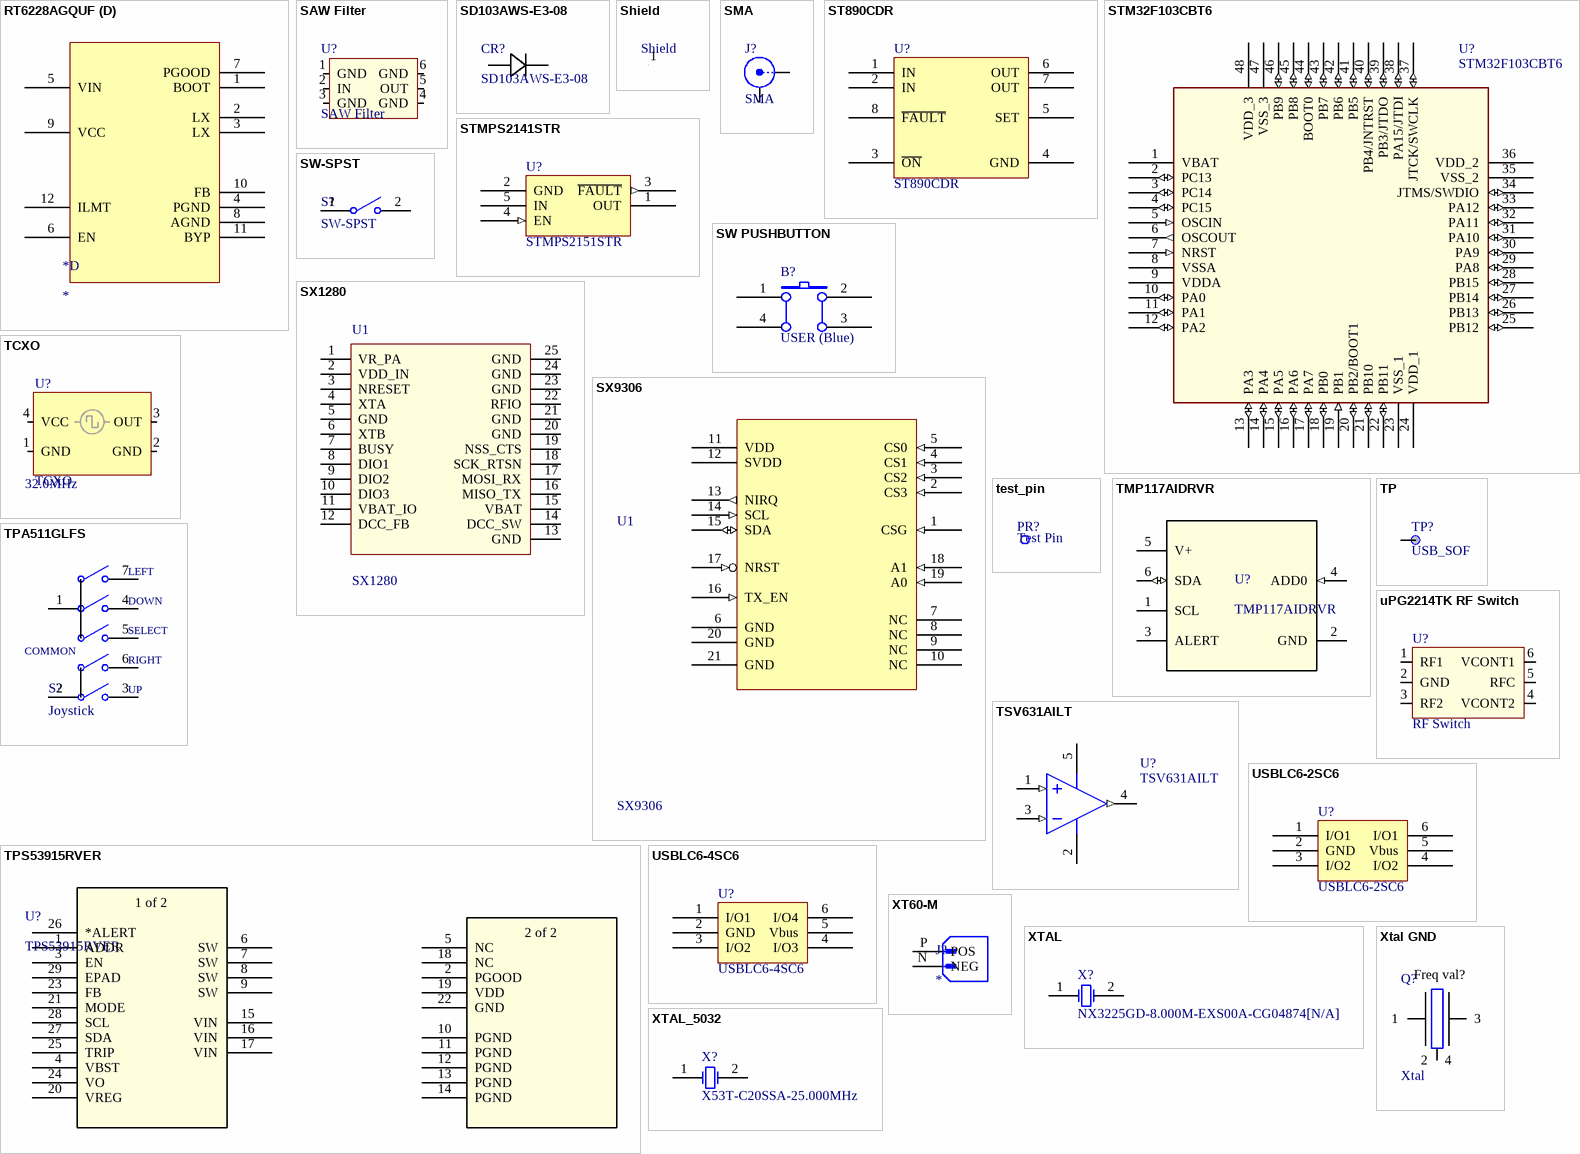
[diagram p3: symbols RT6228AGQUF to XTAL_5032]

## RT6228AGQUF
designator *
part D pins: 1 BOOT, 2 LX, 3 LX, 4 PGND, 5 VIN, 6 EN, 7 PGOOD, 8 AGND, 9 VCC, 10 FB, 11 BYP, 12 ILMT

## SAW Filter
designator U?
SAW Filter - Bandpass - TEMEX type; LatestRevisionDate: 05-oct-2007  -  Semtech
footprint sc44_3.8x3.8mm (sc44 footprint, 3.8x3.8mm)
footprint DCC6C_3.0x3.0mm (DCC6C footprint, 3.0x3.0mm)
pins: 1 GND, 2 IN, 3 GND, 4 GND, 5 OUT, 6 GND

## SD103AWS-E3-08
designator CR?
No Description Available; Mfr_Name: Vishay; Type: DEV; Copyright: Copyright (C) 2022 Ultra Librarian. All rights reserved.; Manufacturer_Part_Number: SD103AWS-E3-08; RefDes: RefDes
footprint CR_WS-E3-08_VIS
pins: 1, 2

## Shield
designator Shield, comment Logo symbol  (value not drawn)
Shield - EMI Gasket - Standard Surface Mount Shields
footprint BMIS-209-F - Shield (BMIS-209-F EMI Gasket - modif SolderMask - Standard Surface Mount Shields -  Laird Technologies)
pins: 1 "Shield"

## SMA
designator J?
SMA Straight Connector; LatestRevisionDate: 05-oct-2007  -  Semtech; LatestRevisionNote: Re-released for DXP Platform.; Publisher: Altium Limited
footprint SMA Straight SMD (SMA Connector; Straight; SMD)
footprint SMA END LAUNCH JACK RECEPTACLE (SMA Connector - End Launch Jack Receptacle)
footprint SMA Straight (SMA Connector; Straight)
footprint SMA END LAUNCH JACK RECEPTACLE SHORT (SMA Connector - End Launch Jack Receptacle - Short)
pins: 1 Signal "RF signal", 2 GND "Ground signal"

## ST890CDR
designator U?
footprint SOIC8_1R27_4R9X6 (Footprint not found)
footprint SO-8_STM
pins: 1 IN, 2 IN, 3 ~{ON}, 4 GND, 5 SET, 6 OUT, 7 OUT, 8 ~{FAULT}

## STM32F103CBT6
designator U?
Medium-density performance line ARM-based 32-bit MCU with 64KB Flash; Manuf_Part_1: STM32F103C8T6; Manuf_1: STM; Ref St: 9175981; Provided: ST; ECCN_US/EU: 3A991A2/NEC; Footprint: QFP48 7X7; Distrib: ST; Order: STM32F103C8T6
footprint QFP48 7X7 (Footprint not found)
footprint LQFP48_0R5_7x7 (Footprint not found)
pins: 1 VBAT (power), 2 PC13 (io), 3 PC14 (io), 4 PC15 (io), 5 OSCIN (in), 6 OSCOUT (out), 7 NRST (in), 8 VSSA (power), 9 VDDA (power), 10 PA0 (io), 11 PA1 (io), 12 PA2 (io), 13 PA3 (io), 14 PA4 (io), 15 PA5 (io), 16 PA6 (io), 17 PA7 (io), 18 PB0 (io), 19 PB1 (in), 20 PB2/BOOT1 (io), 21 PB10 (io), 22 PB11 (io), 23 VSS_1 (power), 24 VDD_1 (power), 25 PB12 (io), 26 PB13 (io), 27 PB14 (io), 28 PB15 (io), 29 PA8 (io), 30 PA9 (io), 31 PA10 (io), 32 PA11 (io), 33 PA12 (io), 34 JTMS/SWDIO (io), 35 VSS_2 (power), 36 VDD_2 (power), 37 JTCK/SWCLK (io), 38 PA15/JTDI (io), 39 PB3/JTDO (io), 40 PB4/JNTRST (io), 41 PB5 (io), 42 PB6 (io), 43 PB7 (io), 44 BOOT0 (io), 45 PB8 (io), 46 PB9 (io), 47 VSS_3 (power), 48 VDD_3 (power)

## STMPS2141STR
designator U?, comment STMPS2151STR
footprint SOT23-5L (Footprint not found)
footprint SOT-23-5L
footprint SOT23-5 (Footprint not found)
footprint SOT-23-5L
footprint SOT23-5L_STM
pins: 1 OUT, 2 GND, 3 ~{FAULT} (out), 4 EN (in), 5 IN

## SW PUSHBUTTON
designator B?, comment USER (Blue)
SE PUSHBUTTON
footprint PB (Footprint not found)
footprint BP1CMS
footprint PB10 (Footprint not found)
footprint PB-6X6mm-Blue (Footprint not found)
pins: 1 A0, 2 B0, 3 B1, 4 A1

## SW-SPST
designator S?
Single-Pole, Single-Throw Switch; Published: 24-Mar-1999; LatestRevisionDate: 05-oct-2007  -  Semtech; LatestRevisionNote: Re-released for DXP Platform.; Publisher: Altium Limited
pins: 1 COMMON, 2 NO

## SX1280
designator U1
SX1280 - Ultra low power RF transceiver
footprint vqfn24_4x4mm (24 Leads, Body 4.0x4.0mm, Pitch 0.50mm, VQFN24)
pins: 1 VR_PA, 2 VDD_IN, 3 NRESET, 4 XTA, 5 GND, 6 XTB, 7 BUSY, 8 DIO1, 9 DIO2, 10 DIO3, 11 VBAT_IO, 12 DCC_FB, 13 GND, 14 DCC_SW, 15 VBAT, 16 MISO_TX, 17 MOSI_RX, 18 SCK_RTSN, 19 NSS_CTS, 20 GND, 21 GND, 22 RFIO, 23 GND, 24 GND, 25 GND

## SX9306
designator U1
Ultra Low Power, Smart Proximity Sensor for SAR
footprint vqfn20_3x3mm (20 Leads, Body 3.0x3.0mm, Pitch 0.40mm, VQFN20)
footprint vqfn20_3x3mm (20 Leads, Body 3.0x3.0mm, Pitch 0.40mm, VQFN20)
pins: 1 CSG (in), 2 CS3 (in), 3 CS2 (in), 4 CS1 (in), 5 CS0 (in), 6 GND (power), 7 NC, 8 NC, 9 NC, 10 NC, 11 VDD (power), 12 SVDD (power), 13 NIRQ (out), 14 SCL (in), 15 SDA (io), 16 TX_EN (in), 17 NRST (in), 18 A1 (in), 19 A0 (in), 20 GND (power), 21 GND (power)

## TCXO
designator U?  value 32.0MHz
footprint IT3200C TCXO (SMD 3.2x2.5mm for IT3200C TCXO)
footprint TCXO 3.2x2.5mm (SMD 3.2x2.5mm for TCXO or VCTCXO)
footprint TCXO 3.2x2.5mm_2.0x1.6mm (SMD 3.2x2.5mm & 2.0x1.6mm compatible for TCXO or VCTCXO)
footprint TCXO 2.0x1.6mm (SMD 2.0x1.6mm for TCXO or VCTCXO)
pins: 1 GND, 2 GND, 3 OUT, 4 VCC

## test_pin
designator PR?, comment Test Pin
LatestRevisionDate: 05-oct-2007  -  Semtech
footprint pin_1mm (Generic Pin 1.1mm; 1 Lead)
footprint pin_1.1mm (Generic Pin 1.1mm; 1 Lead)
footprint pin_SMD (Generic Pin; 1 pin SMD)
pins: 1 pin  "Test Pin"

## TMP117AIDRVR
designator U?
No Description Available; Mfr_Name: Texas Instruments; Type: DEV; RefDes: RefDes; Copyright: Copyright (C) 2022 Ultra Librarian. All rights reserved.; Manufacturer_Part_Number: TMP117AIDRVR
footprint DRV0006B
pins: 1 SCL (oc), 2 GND (power), 3 ALERT (oc), 4 ADD0 (in), 5 V+ (power), 6 SDA (io)

## TP
designator TP?, comment USB_SOF
footprint TP (Footprint not found)
pins: 1

## TPA511GLFS
designator S?, comment Joystick
Joystick - Multidirection SMT Navigation Switch - TPA511GLFS
footprint TPA511GLFS (Joystick; TPA511GLFS; TPA Series; C&K Components)
pins: 1 COMMON1, 2 COMMON2, 3 UP, 4 DOWN, 5 SELECT, 6 RIGHT, 7 LEFT
text: COMMON

## TPS53915RVER
designator U?
No Description Available; Mfr_Name: Texas Instruments; Copyright: Copyright (C) 2023 Ultra Librarian. All rights reserved.; Manufacturer_Part_Number: TPS53915RVER; RefDes: RefDes; Type: DEV
footprint RVE28_TEX
pins: 1 ADDR, 2 PGOOD (power), 3 EN, 4 VBST, 5 NC, 6 SW, 7 SW, 8 SW, 9 SW, 10 PGND, 11 PGND, 12 PGND, 13 PGND, 14 PGND, 15 VIN, 16 VIN, 17 VIN, 18 NC, 19 VDD (power), 20 VREG, 21 MODE, 22 GND, 23 FB, 24 VO, 25 TRIP, 26 *ALERT, 27 SDA, 28 SCL, 29 EPAD
text: 1 of 2; 2 of 2

## TSV631AILT
designator U?
footprint SOT23-5L (Footprint not found)
footprint SOT-23-5L
pins: 1 IN+ (in), 2 VDD (power), 3 IN- (in), 4 OUT (out), 5 VCC (power)

## uPG2214TK RF Switch
designator U?, comment RF Switch
uPG2214TK RF Switch; LatestRevisionDate: 02-June-2015 -  Semtech
footprint MiniMold-6 (MiniMold-6 Package 1.5x1.1mm)
pins: 1 RF1, 2 GND, 3 RF2, 4 VCONT2, 5 RFC, 6 VCONT1

## USBLC6-2SC6
designator U?
footprint SOT23-6L (Footprint not found)
pins: 1 I/O1, 2 GND, 3 I/O2, 4 I/O2, 5 Vbus, 6 I/O1

## USBLC6-4SC6
designator U?
footprint SOT23-6L (Footprint not found)
pins: 1 I/O1, 2 GND, 3 I/O2, 4 I/O3, 5 Vbus, 6 I/O4

## XT60-M
designator J?
Plug; DC supply; XT60; male; PIN: 2; for cable; soldered; 30A; 500V; MP: XT60-M; MF: AMASS; Price: None; Availability: Not in stock; Package: Package; Value: *; SnapEDA_Link: https://www.snapeda.com/parts/XT60-M/AMASS/view-part/?ref=snap; Check_prices: https://www.snapeda.com/parts/XT60-M/AMASS/view-part/?ref=eda
footprint AMASS_XT60-M
pins: N NEG, P POS

## XTAL
designator X?, comment NX3225GD-8.000M-EXS00A-CG04874[N/A]
Crystal Oscillator; Published: 8-Jun-2000; LatestRevisionDate: 17-Jul-2002; LatestRevisionNote: Re-released for DXP Platform.; PackageReference: R38; Publisher: Altium Limited
footprint R38
footprint XTAL1
footprint HOSC-L500HW320H105-4_V (Quartz Crystal, Body 5.0 x 3.2 mm, Height 1.05mm)
footprint NDK_NX3225GD (NDK 8M Hz  3.2 x 2.5 mm)
footprint XTAL_3225 (Footprint not found)
footprint OSC_2SM_3R2x2R5 (Footprint not found)
footprint XTAL_NX3225GD_NDK (Footprint not found)
pins: 1 OSC1, 2 OSC2
2 alternate drawings of the same symbol

## Xtal GND
designator Q?, comment Xtal  value Freq val?
Crystal with GND pins; 4 pins; LatestRevisionDate: 17-04-2014  -  Semtech
footprint nd2520da (Crystal SMD 2.5x2.0mm)
footprint nd2016da (Crystal SMD 2.0x1.6mm)
footprint nd3225da (Crystal SMD 3.2x2.5mm)
footprint nd5032da (Crystal SMD 5.0x3.2mm)
footprint nd6035da (Crystal SMD 6.0x3.5mm)
footprint nd7050da - enlarge (Crystal SMD 7.0x5.0mm - Enlarge Pads to be compatible with 3.2x2.5mm footprint)
footprint nd3225da - nd2520da (Crystal SMD 3.2x2.5mm compatible with 2.5x2.0mm)
pins: 1, 2, 3, 4

## XTAL_5032
designator X?, comment X53T-C20SSA-25.000MHz
Crystal Oscillator; Published: 8-Jun-2000; LatestRevisionDate: 17-Jul-2002; LatestRevisionNote: Re-released for DXP Platform.; PackageReference: R38; Publisher: Altium Limited
footprint R38
footprint XTAL1
footprint HOSC-L500HW320H105-4_V (Quartz Crystal, Body 5.0 x 3.2 mm, Height 1.05mm)
footprint NDK_NX3225GD (NDK 8M Hz  3.2 x 2.5 mm)
footprint XTAL_5032 (Footprint not found)
footprint XTAL_2SM_5R0X3R2 (Footprint not found)
pins: 1 OSC1, 2 OSC2
2 alternate drawings of the same symbol